# Altium integrated library UPM1H010MDD.IntLib: 1 symbol
Pins are listed as number, name and electrical type; pins without a type are passive.

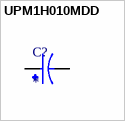
[diagram p0: symbol UPM1H010MDD]

## UPM1H010MDD
designator C?
1ÂµF 50V Aluminum Electrolytic Capacitors Radial, Can 2000 Hrs @ 105Â°C; MF: Nichicon; MP: UPM1H010MDD; Package: Radial Nichicon; Purchase-URL: https://pricing.snapeda.com/search/part/UPM1H010MDD/?ref=eda; Value: *; Availability: In Stock; SnapEDA_Link: https://www.snapeda.com/parts/UPM1H010MDD/Nichicon/view-part/2419074/?ref=snap; Price: None; Check_prices: https://www.snapeda.com/parts/UPM1H010MDD/Nichicon/view-part/2419074/?ref=eda
footprint CAPPRD200W50D500H1250
pins: N, P